# EAGLE library part ARS1412 (library Relay)
RELAY RF SPDT 500MA 12V Manufacturer's datasheet <https://media.digikey.com/pdf/Data%20Sheets/Panasonic%20Electric%20Works%20PDFs/RS_Relays(ARS).pdf>
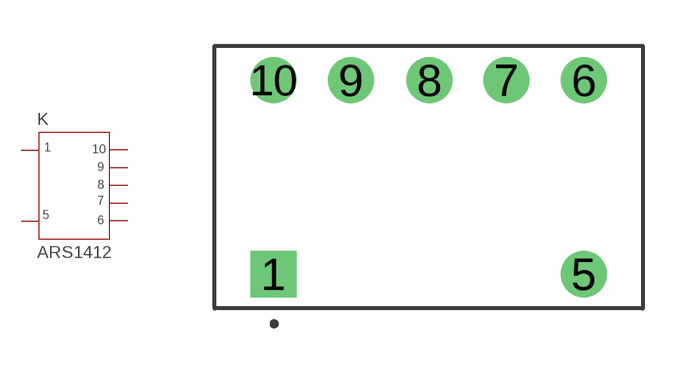
[diagram p0: symbol with the pads of ARS1412; footprint ARS1412]

Designator prefix K

## ARS1412 (CREATED_BY: PCBLayout.com; DIGIKEY_PARTNO: 255-4230-5-ND; MAUFACTURER: Panasonic Electric Works; MPN: ARS1412)  [ARS1412]
1  1  pas
5  5  pas
6  6  pas
7  7  pas
8  8  pas
9  9  pas
10  10  pas

## Footprint ARS1412 (pad centres in mm)
drill 1 square: 1 -5.08,-3.175
drill 1: 5 5.08,-3.175; 6 5.08,3.175; 7 2.54,3.175; 8 0.025,3.175; 9 -2.54,3.175; 10 -5.08,3.175